# Altium footprint library SOT-23-5_DIY.PcbLib: 1 footprints
Each footprint in its own frame and in the unit in brackets; x right, y up, seen from the top. Pads: shape width x height; smd on the part's side, far side on the other; paste and mask are expansions set on the pad; w line width, h text height; cw(c..) or ccw(c..) is an arc to the next point about the centre after c.
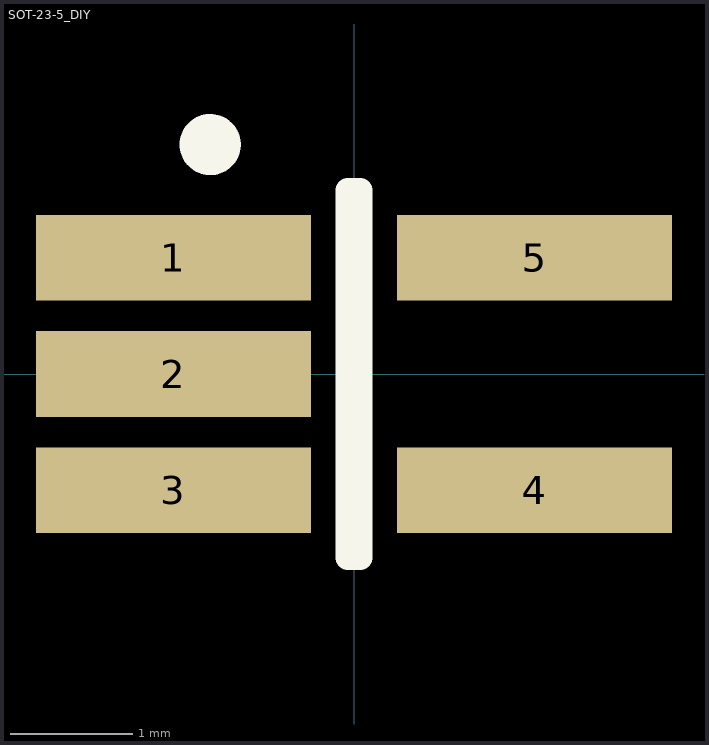
[diagram p0: the footprint, top view; thin cyan lines are the x and y axes]

## SOT-23-5_DIY [mm]
height 1.45
pads (5):
  rect 2.25x0.7 smd: 1(-1.475,0.95) 2(-1.475,0) 3(-1.475,-0.95) 4(1.475,-0.95) 5(1.475,0.95)
Top Overlay:
  circle w0.25: c-1.175,1.875 r0.125
  lines w0.2: -0.05,-1.5 0.05,-1.5 0.05,1.5 -0.05,1.5 -0.05,-1.5